# EAGLE library part SI7137DP-T1-GE3 (library 911_circuits)
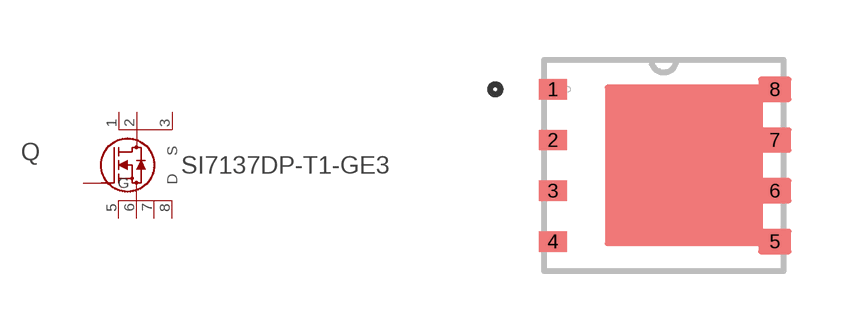
[diagram p2: symbol with the pads of MOSFET_7DP-T1-GE3_VIS; footprint MOSFET_7DP-T1-GE3_VIS]

Designator prefix Q

## SI7137DP-T1-GE3 (COPYRIGHT: Copyright (C) 2024 Ultra Librarian. All rights reserved.; MANUFACTURER_PART_NUMBER: SI7137DP-T1-GE3; MFR_NAME: Vishay)  [MOSFET_7DP-T1-GE3_VIS]
1  S_2  pas
2  S_3  pas
3  S  pas
4  G  pas
5  D_4  pas
6  D_2  pas
7  D_3  pas
8  D  pas

## Footprint MOSFET_7DP-T1-GE3_VIS (pad centres in mm)
smd 0.711 x 0.508: 1 -2.775,1.905; 2 -2.775,0.635; 3 -2.775,-0.635; 4 -2.775,-1.905; 5 2.775,-1.905; 6 2.775,-0.635; 7 2.775,0.635; 8 2.775,1.905